# Altium integrated library Analog Devices Data Converters Analog-to-Digital Converters.IntLib: 2400 symbols (part 19 of 338)
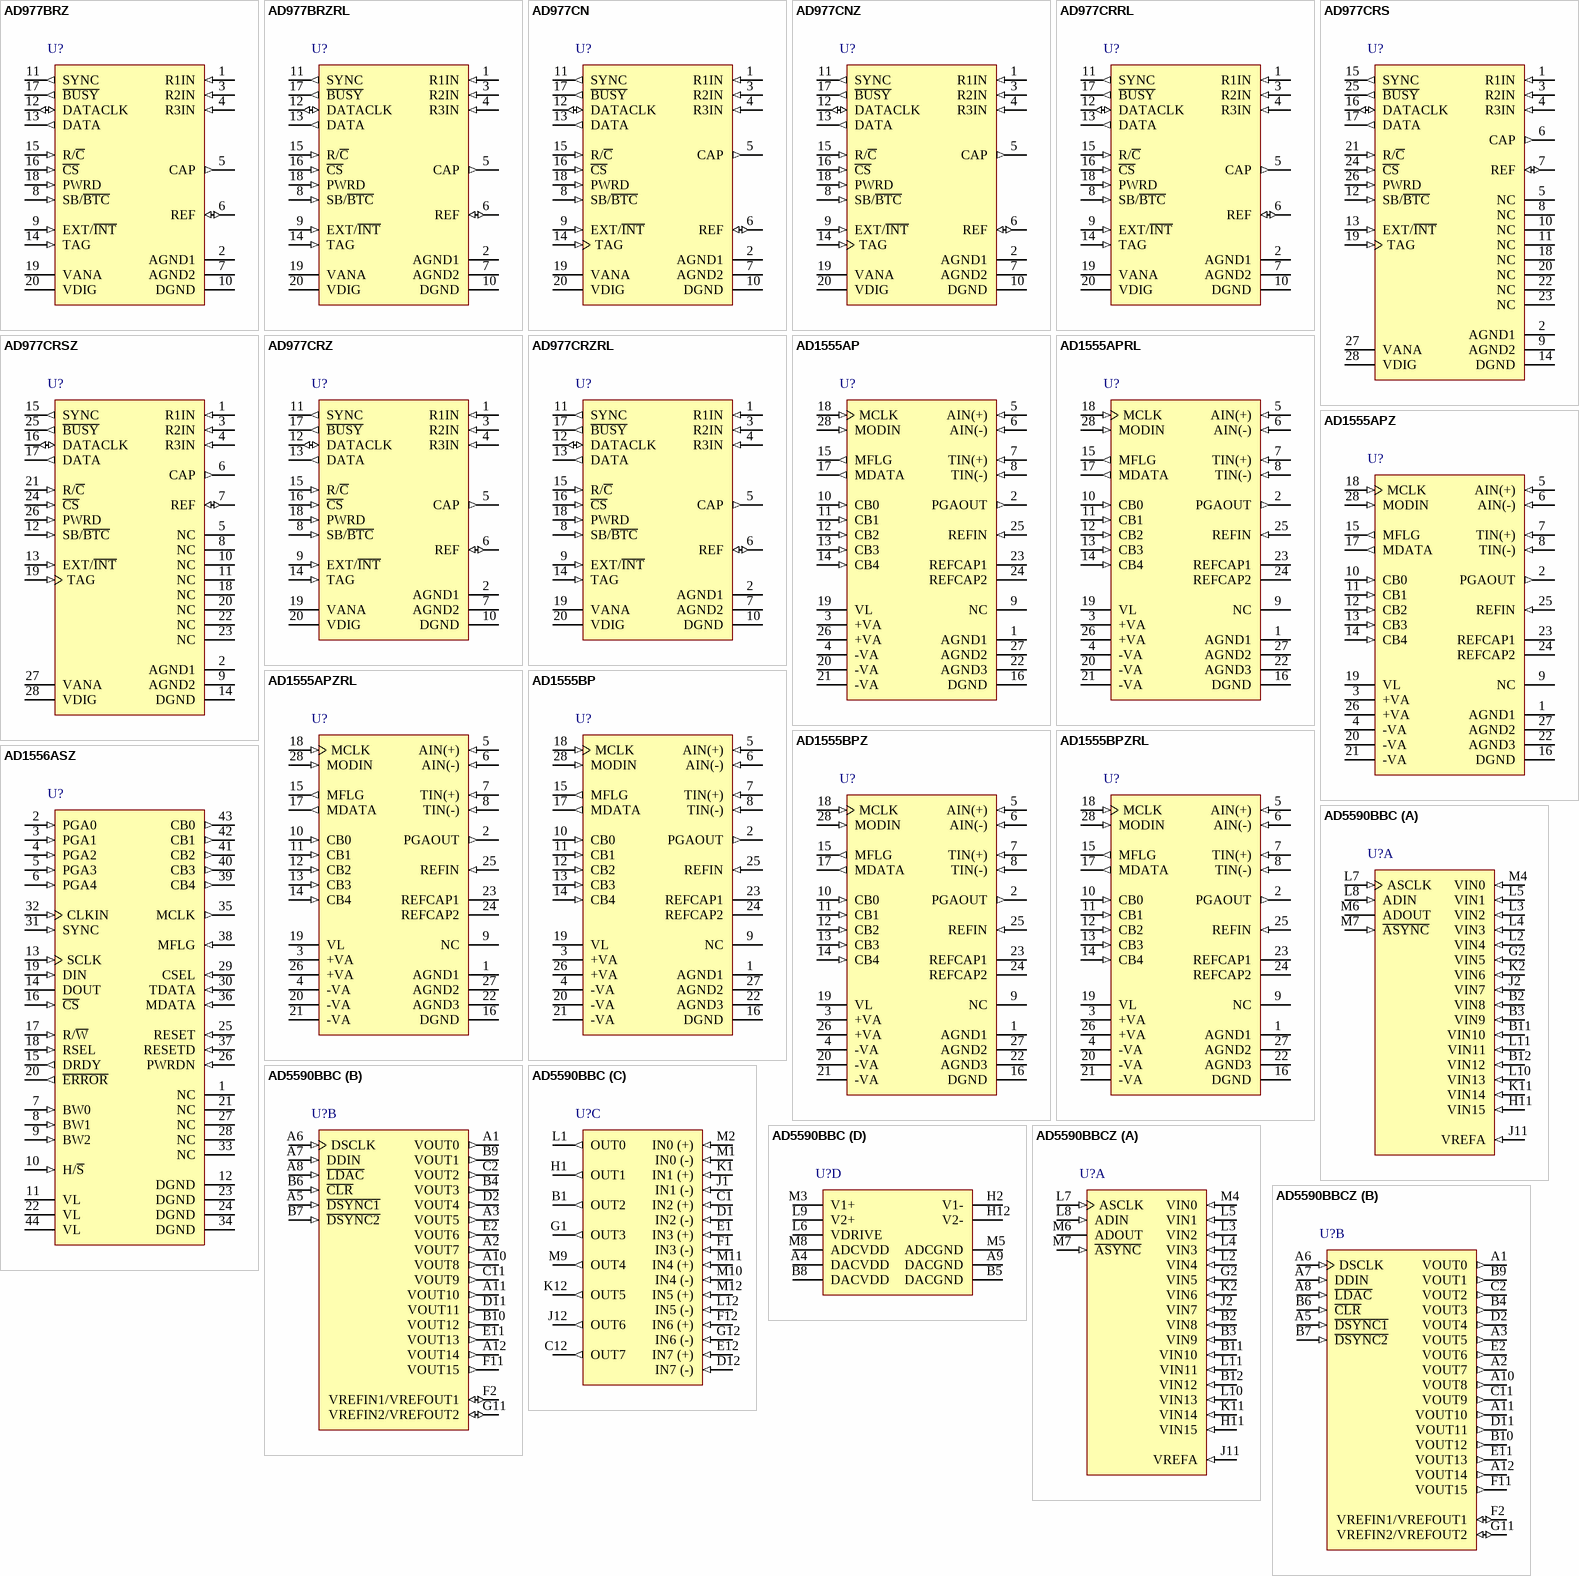
[diagram p165: symbols AD977BRZ to AD5590BBCZ]

## AD1555BPZ
designator U?
Dual 24-Bit Low Noise Sigma-Delta Analog-to-Digital Converter with Byte, Serial Interface and Low Noise PGA, 16KSPS, -55 to +85 degC, P-28, Pb-Free, Tube; Part Number: AD1555; Manufacturer: Analog Devices; Resolution (Bits): 24; Channels: 2; Throughput Rate (SPS): 16K; DatasheetVersion: Rev.B; PackageVersion: 042508-A; PackageReference: P-28; PackageDescription: 28-Lead Plastic Leaded Chip Carrier [PLCC]; Interface: Byte, Ser; RoHS: Y; Packing: Tube; Mounting Technology: Surface Mount; Code_JEDEC: MO-047-AB; ComponentLink1Description: Manufacturer URL; ComponentLink1URL: http://www.analog.com/en/index.html; ComponentLink2Description: Datasheet; ComponentLink2URL: http://www.analog.com/static/imported-files/data_sheets/AD1555_1556.pdf; ComponentLink3Description: Package Specification; ComponentLink3URL: http://www.analog.com/static/imported-files/packages/PKG_PDF/PLCC(P)/P_28.pdf; ComponentLink4Description: Product URL; ComponentLink4URL: http://www.analog.com/en/analog-to-digital-converters/ad-converters/ad1555/products/product.html
footprint P-28_N (Leaded Chip Carrier, 28-Leads, Body 11.5x11.5mm, Pitch 1.27mm, IPC Medium Density)
footprint P-28_L (Leaded Chip Carrier, 28-Leads, Body 11.5x11.5mm, Pitch 1.27mm, IPC High Density)
footprint P-28_M (Leaded Chip Carrier, 28-Leads, Body 11.5x11.5mm, Pitch 1.27mm, IPC Low Density)
pins: 1 AGND1 (power) "Analog Ground", 2 PGAOUT (out) "Programmable Gain Amplifier Output. The output of the on-chip programmable gain amplifier is available at this pin. Refer to Table III for PGA gain settings selection.", 3 +VA (power) "Positive Analog Supply Voltage. +5 V nominal.", 4 -VA (power) "Negative Analog Supply Voltage. -5 V nominal.", 5 AIN(+) (in) "Mux Input. Noninverting signal to the PGA mux input. Refer to Table III for input selection.", 6 AIN(-) (in) "Mux Input. Inverting signal to the PGA mux input. Refer to Table III for input selection.", 7 TIN(+) (in) "Mux Input. Noninverting test signal to the PGA mux input. Refer to Table III for input selection.", 8 TIN(-) (in) "Mux Input. Inverting test signal to the PGA mux input. Refer to Table III for input selection.", 9 NC "Pin for Factory Use Only. This pin must be kept not connected for normal operation.", 10 CB0 (in) "Modulator Control. These input pins control the mux selection, the PGA gain settings, and the standby modes of the AD1555. When used with the AD1556, these pins are generally directly tied to the CB0-CB4 output pins of the (See Datasheet)", 11 CB1 (in) "Modulator Control. These input pins control the mux selection, the PGA gain settings, and the standby modes of the AD1555. When used with the AD1556, these pins are generally directly tied to the CB0-CB4 output pins of the (See Datasheet)", 12 CB2 (in) "Modulator Control. These input pins control the mux selection, the PGA gain settings, and the standby modes of the AD1555. When used with the AD1556, these pins are generally directly tied to the CB0-CB4 output pins of the (See Datasheet)", 13 CB3 (in) "Modulator Control. These input pins control the mux selection, the PGA gain settings, and the standby modes of the AD1555. When used with the AD1556, these pins are generally directly tied to the CB0-CB4 output pins of the (See Datasheet)", 14 CB4 (in) "Modulator Control. These input pins control the mux selection, the PGA gain settings, and the standby modes of the AD1555. When used with the AD1556, these pins are generally directly tied to the CB0-CB4 output pins of the (See Datasheet)", 15 MFLG (out) "Modulator Error. Digital output that is pulsed high if an overrange condition occurs in the modulator.", 16 DGND (power) "Digital Ground", 17 MDATA (out) "Modulator Output. The bitstream generated by the modulator is output in a return-to-zero data format. The data is valid for approximately one-half a MCLK cycle. Refer to Figure 3.", 18 MCLK (in) "Clock Input. The clock input signal, nominally 256 kHz, provides the necessary clock for the sigma-? modulator. When this input is static, AD1555 is in the power-down mode.", 19 VL (power) "Positive Digital Supply Voltage. 5 V Nominal.", 20 -VA (power) "Negative Analog Supply Voltage. -5 V nominal.", 21 -VA (power) "Negative Analog Supply Voltage. -5 V nominal.", 22 AGND3 (power) "Analog Ground. Used as the ground reference for the REFIN pin.", 23 REFCAP1 "DAC Reference Filter. The reference input is internally divided and available at this pin to provide the reference for the sigma delta-delta modulator. Connect an external 22 µF (5 V min) tantalum capacitor from REFCAP1 to (See Datasheet)", 24 REFCAP2 "Reference Filter. The reference input is internally divided and available at this pin.", 25 REFIN (in) "Reference Input. This input accepts a 3 V level that is internally divided to provide the reference for the sigma-? modulator.", 26 +VA (power) "Positive Analog Supply Voltage. +5 V nominal.", 27 AGND2 (power) "Analog Ground.", 28 MODIN (in) "Modulator Input. Analog input to the modulator. Normally, this input is directly tied to PGAOUT output."

## AD1555BPZRL
designator U?
Dual 24-Bit Low Noise Sigma-Delta Analog-to-Digital Converter with Byte, Serial Interface and Low Noise PGA, 16KSPS, -55 to +85 degC, P-28, Pb-Free, Reel; Part Number: AD1555; Manufacturer: Analog Devices; Resolution (Bits): 24; Channels: 2; Throughput Rate (SPS): 16K; DatasheetVersion: Rev.B; PackageVersion: 042508-A; PackageReference: P-28; PackageDescription: 28-Lead Plastic Leaded Chip Carrier [PLCC]; Interface: Byte, Ser; RoHS: Y; Packing: Reel; Mounting Technology: Surface Mount; Code_JEDEC: MO-047-AB; ComponentLink1Description: Manufacturer URL; ComponentLink1URL: http://www.analog.com/en/index.html; ComponentLink2Description: Datasheet; ComponentLink2URL: http://www.analog.com/static/imported-files/data_sheets/AD1555_1556.pdf; ComponentLink3Description: Package Specification; ComponentLink3URL: http://www.analog.com/static/imported-files/packages/PKG_PDF/PLCC(P)/P_28.pdf; ComponentLink4Description: Product URL; ComponentLink4URL: http://www.analog.com/en/analog-to-digital-converters/ad-converters/ad1555/products/product.html
footprint P-28_N (Leaded Chip Carrier, 28-Leads, Body 11.5x11.5mm, Pitch 1.27mm, IPC Medium Density)
footprint P-28_L (Leaded Chip Carrier, 28-Leads, Body 11.5x11.5mm, Pitch 1.27mm, IPC High Density)
footprint P-28_M (Leaded Chip Carrier, 28-Leads, Body 11.5x11.5mm, Pitch 1.27mm, IPC Low Density)
pins: 1 AGND1 (power) "Analog Ground", 2 PGAOUT (out) "Programmable Gain Amplifier Output. The output of the on-chip programmable gain amplifier is available at this pin. Refer to Table III for PGA gain settings selection.", 3 +VA (power) "Positive Analog Supply Voltage. +5 V nominal.", 4 -VA (power) "Negative Analog Supply Voltage. -5 V nominal.", 5 AIN(+) (in) "Mux Input. Noninverting signal to the PGA mux input. Refer to Table III for input selection.", 6 AIN(-) (in) "Mux Input. Inverting signal to the PGA mux input. Refer to Table III for input selection.", 7 TIN(+) (in) "Mux Input. Noninverting test signal to the PGA mux input. Refer to Table III for input selection.", 8 TIN(-) (in) "Mux Input. Inverting test signal to the PGA mux input. Refer to Table III for input selection.", 9 NC "Pin for Factory Use Only. This pin must be kept not connected for normal operation.", 10 CB0 (in) "Modulator Control. These input pins control the mux selection, the PGA gain settings, and the standby modes of the AD1555. When used with the AD1556, these pins are generally directly tied to the CB0-CB4 output pins of the (See Datasheet)", 11 CB1 (in) "Modulator Control. These input pins control the mux selection, the PGA gain settings, and the standby modes of the AD1555. When used with the AD1556, these pins are generally directly tied to the CB0-CB4 output pins of the (See Datasheet)", 12 CB2 (in) "Modulator Control. These input pins control the mux selection, the PGA gain settings, and the standby modes of the AD1555. When used with the AD1556, these pins are generally directly tied to the CB0-CB4 output pins of the (See Datasheet)", 13 CB3 (in) "Modulator Control. These input pins control the mux selection, the PGA gain settings, and the standby modes of the AD1555. When used with the AD1556, these pins are generally directly tied to the CB0-CB4 output pins of the (See Datasheet)", 14 CB4 (in) "Modulator Control. These input pins control the mux selection, the PGA gain settings, and the standby modes of the AD1555. When used with the AD1556, these pins are generally directly tied to the CB0-CB4 output pins of the (See Datasheet)", 15 MFLG (out) "Modulator Error. Digital output that is pulsed high if an overrange condition occurs in the modulator.", 16 DGND (power) "Digital Ground", 17 MDATA (out) "Modulator Output. The bitstream generated by the modulator is output in a return-to-zero data format. The data is valid for approximately one-half a MCLK cycle. Refer to Figure 3.", 18 MCLK (in) "Clock Input. The clock input signal, nominally 256 kHz, provides the necessary clock for the sigma-? modulator. When this input is static, AD1555 is in the power-down mode.", 19 VL (power) "Positive Digital Supply Voltage. 5 V Nominal.", 20 -VA (power) "Negative Analog Supply Voltage. -5 V nominal.", 21 -VA (power) "Negative Analog Supply Voltage. -5 V nominal.", 22 AGND3 (power) "Analog Ground. Used as the ground reference for the REFIN pin.", 23 REFCAP1 "DAC Reference Filter. The reference input is internally divided and available at this pin to provide the reference for the sigma delta-delta modulator. Connect an external 22 µF (5 V min) tantalum capacitor from REFCAP1 to (See Datasheet)", 24 REFCAP2 "Reference Filter. The reference input is internally divided and available at this pin.", 25 REFIN (in) "Reference Input. This input accepts a 3 V level that is internally divided to provide the reference for the sigma-? modulator.", 26 +VA (power) "Positive Analog Supply Voltage. +5 V nominal.", 27 AGND2 (power) "Analog Ground.", 28 MODIN (in) "Modulator Input. Analog input to the modulator. Normally, this input is directly tied to PGAOUT output."

## AD1556ASZ
designator U?
Dual 24-Bit Sigma-Delta Analog-to-Digital Converter with Byte, Serial Interface and Low Noise PGA, 16KSPS, -55 to +85 degC, S-44A, Pb-Free, Tray; Part Number: AD1556; Manufacturer: Analog Devices; Resolution (Bits): 24; Channels: 2; Throughput Rate (SPS): 16K; DatasheetVersion: Rev.B; PackageVersion: 1999; PackageReference: S-44A; PackageDescription: 44-Lead Metric Quad Flat Package [MQFP]; Interface: Byte, Ser; RoHS: Y; Packing: Tray; Mounting Technology: Surface Mount; ComponentLink1Description: Manufacturer URL; ComponentLink1URL: http://www.analog.com/en/index.html; ComponentLink2Description: Datasheet; ComponentLink2URL: http://www.analog.com/static/imported-files/data_sheets/AD1555_1556.pdf; ComponentLink3Description: Package Specification; ComponentLink3URL: S-44A; ComponentLink4Description: Product URL; ComponentLink4URL: http://www.analog.com/en/analog-to-digital-converters/ad-converters/ad1556/products/product.html
footprint S-44A_N (QFP, 44-Leads, Body 10x10mm, Pitch 0.8mm, IPC Medium Density)
footprint S-44A_L (QFP, 44-Leads, Body 10x10mm, Pitch 0.8mm, IPC High Density)
footprint S-44A_M (QFP, 44-Leads, Body 10x10mm, Pitch 0.8mm, IPC Low Density)
pins: 1 NC "No Connect", 2 PGA0 (in) "PGA and MUX Control Inputs. Sets the logic level of CB0-CB4 output pins respectively and thestate of the corresponding bit in the configuration register upon RESET or when in hardware mode.Refer to Table III.", 3 PGA1 (in) "PGA and MUX Control Inputs. Sets the logic level of CB0-CB4 output pins respectively and thestate of the corresponding bit in the configuration register upon RESET or when in hardware mode.Refer to Table III.", 4 PGA2 (in) "PGA and MUX Control Inputs. Sets the logic level of CB0-CB4 output pins respectively and thestate of the corresponding bit in the configuration register upon RESET or when in hardware mode.Refer to Table III.", 5 PGA3 (in) "PGA and MUX Control Inputs. Sets the logic level of CB0-CB4 output pins respectively and thestate of the corresponding bit in the configuration register upon RESET or when in hardware mode.Refer to Table III.", 6 PGA4 (in) "PGA and MUX Control Inputs. Sets the logic level of CB0-CB4 output pins respectively and thestate of the corresponding bit in the configuration register upon RESET or when in hardware mode.Refer to Table III.", 7 BW0 (in) "Output Rate Control Inputs. Sets the digital filter decimation rate and the state of the corresponding bit in the configuration register upon RESET or when in hardware mode. Refer to the FilterSpecifications and Table VI.", 8 BW1 (in) "Output Rate Control Inputs. Sets the digital filter decimation rate and the state of the corresponding bit in the configuration register upon RESET or when in hardware mode. Refer to the FilterSpecifications and Table VI.", 9 BW2 (in) "Output Rate Control Inputs. Sets the digital filter decimation rate and the state of the corresponding bit in the configuration register upon RESET or when in hardware mode. Refer to the FilterSpecifications and Table VI.", 10 H/~{S} (in) "Hardware/Software Mode Select. Determines how the device operation is controlled. In hardwaremode, H/S\ is high, the state of hardware pins set the mode of operation. When H/S\ is low, a writesequence to the Configuration (See Datasheet)", 11 VL (power) "Positive Digital Supply Voltage. 3.3 V or 5 V nominal.", 12 DGND (power) "Digital Ground", 13 SCLK (in) "Serial Data Clock. Synchronizes data transfer to either write data on the DIN input pin or readdata on the DOUT output pin.", 14 DOUT (hiz) "Serial Data Output. DOUT is used to access the conversion results or the contents of the StatusRegister, depending on the logic state of the RSEL pin. At the beginning of a read operation, thefirst data bit is output (MSB (See Datasheet)", 15 DRDY (out) "Data Ready. A logic high output indicates that data is ready to be accessed from the Output DataRegister. DRDY goes low once a read operation is complete. When selected, the DRDY output pinhas a type buffer that allows (See Datasheet)", 16 ~{CS} (in) "Chip Select. When set low the serial data interface pins DIN, DOUT, R/W\, and SCLK are active; alogic high disables these pins and sets the DOUT pin to Hi-Z.", 17 R/~{W} (in) "Read/Write. A read operation is initiated if R/W\ is high and C\S\ is low. A low sets the DOUT pin to Hi-Z and allows a write operation to the device via the DIN pin.", 18 RSEL (in) "Register Select. When set high, the Conversion Data Register contents are output on a read operation. A low selects the Status Register.", 19 DIN (in) "Serial Data Input. Used during a write operation. Loads the Configuration Register via the InputShift Register. Data is loaded MSB first and must be valid on the falling edge of SCLK.", 20 ~{ERROR} (out) "Error Flag. A logic low output indicates an error condition occurred in the modulator or digitalfilter. When ERROR goes low the E\R\R\O\R\ bit in the status register is set high. The E\R\R\O\R\ outputpin has an open drain (See Datasheet)", 21 NC "No Connect", 22 VL (power) "Positive Digital Supply Voltage. 3.3 V or 5 V nominal.", 23 DGND (power) "Digital Ground", 24 DGND (power) "Digital Ground", 25 RESET (in) "Chip Reset. A logic high input clears any error condition in the status register and sets the configurationregister to the state of the corresponding hardware pins. On power-up, this reset state is entered.", 26 PWRDN (in) "Power-Down Hardware Control. A logic high input powers down the filter. The convolution cyclesin the digital filter and the MCLK signal are stopped. All registers retain their data and the serialdata interface remains active.(See Datasheet)", 27 NC "No Connect", 28 NC "No Connect", 29 CSEL (in) "Filter Input Select. Selects the source for input to the digital filter. A logic high selects the TDATAinput, a low selects MDATA as the filter input.", 30 TDATA (in) "Test Data. Input to digital filter for user test data.", 31 SYNC (in) "Synchronization Input. The SYNC input clears the AD1556 filter in order to synchronize the startof the filter convolutions. The SYNC event is initiated on the first CLKIN rising edge after theSYNC pin goes high. The SYNC (See Datasheet)", 32 CLKIN (in) "Clock Input. The clock input signal, nominally 1.024 MHz, provides the necessary clock for theAD1556. This clock frequency is divided by four to generate the MCLK signal for the AD1555.", 33 NC "No Connect", 34 DGND (power) "Digital Ground", 35 MCLK (out) "Modulator Clock. Provides the modulator sampling clock frequency. The modulator always samplesat one-fourth the CLKIN frequency.", 36 MDATA (in) "Modulator Data. This input receives the ones-density bit stream from the AD1555 for input to thedigital filter.", 37 RESETD (in) "Decimator Reset. A logic high resets the decimator of the digital filter.", 38 MFLG (in) "Modulator Error. The MFLG input is used to detect if an overrange condition occurred in themodulator. Its logic level is sensed on the rising edge of CLKIN. When overrange conditiondetected, ERROR goes low and updates the (See Datasheet)", 39 CB4 (out) "Modulator Control. These output control pins represent a portion of the data loaded into the AD1556Configuration Register. CB0-CB2 are generally used to set the PGA gain or cause it to enter in thePGA standby mode (Refer to (See Datasheet)", 40 CB3 (out) "Modulator Control. These output control pins represent a portion of the data loaded into the AD1556Configuration Register. CB0-CB2 are generally used to set the PGA gain or cause it to enter in thePGA standby mode (Refer to (See Datasheet)", 41 CB2 (out) "Modulator Control. These output control pins represent a portion of the data loaded into the AD1556Configuration Register. CB0-CB2 are generally used to set the PGA gain or cause it to enter in thePGA standby mode (Refer to (See Datasheet)", 42 CB1 (out) "Modulator Control. These output control pins represent a portion of the data loaded into the AD1556Configuration Register. CB0-CB2 are generally used to set the PGA gain or cause it to enter in thePGA standby mode (Refer to (See Datasheet)", 43 CB0 (out) "Modulator Control. These output control pins represent a portion of the data loaded into the AD1556Configuration Register. CB0-CB2 are generally used to set the PGA gain or cause it to enter in thePGA standby mode (Refer to (See Datasheet)", 44 VL (power) "Positive Digital Supply Voltage. 3.3 V or 5 V nominal."

## AD5590BBC
designator U?
16 Channel 12-Bit Analog-to-Digital Converter with Serial, SPI Interface, 1MSPS, -40 to +85 degC, BC-80-2, Tray; Part Number: AD5590; Manufacturer: Analog Devices; Resolution (Bits): 12; Channels: 16; Throughput Rate (SPS): 1M; Interface: Ser, SPI; DatasheetVersion: Rev.A; PackageVersion: 011007-A; PackageReference: BC-80-2; PackageDescription: 80-Ball Chip Scale Package Ball Grid Array [CSP_BGA]; RoHS: N; Packing: Tray; Mounting Technology: Surface Mount; Code_JEDEC: MO-205-AC*; ComponentLink1Description: Manufacturer URL; ComponentLink1URL: http://www.analog.com/en/index.html; ComponentLink2Description: Datasheet; ComponentLink2URL: http://www.analog.com/static/imported-files/data_sheets/AD5590.pdf; ComponentLink3Description: Package Specification; ComponentLink3URL: http://www.analog.com/static/imported-files/packages/PKG_PDF/CSPBGA%20(BC)/BC_80_2.pdf; ComponentLink4Description: Product URL; ComponentLink4URL: http://www.analog.com/en/analog-to-digital-converters/ad-converters/ad5590/products/product.html
footprint BC-80-2 (BGA, 80-Leads, Body 10x10mm, Pitch 0.8mm)
part A pins: B2 VIN8 (in) "Analog Input 0 through Analog Input 15. Sixteen single-ended analog input channels that are multiplexed into the on-chip track and hold. The analog input channel to be converted is selected by using the ADD3 through ADD0 (See Datasheet)", B3 VIN9 (in) "Analog Input 0 through Analog Input 15. Sixteen single-ended analog input channels that are multiplexed into the on-chip track and hold. The analog input channel to be converted is selected by using the ADD3 through ADD0 (See Datasheet)", B11 VIN10 (in) "Analog Input 0 through Analog Input 15. Sixteen single-ended analog input channels that are multiplexed into the on-chip track and hold. The analog input channel to be converted is selected by using the ADD3 through ADD0 (See Datasheet)", B12 VIN12 (in) "Analog Input 0 through Analog Input 15. Sixteen single-ended analog input channels that are multiplexed into the on-chip track and hold. The analog input channel to be converted is selected by using the ADD3 through ADD0 (See Datasheet)", G2 VIN5 (in) "Analog Input 0 through Analog Input 15. Sixteen single-ended analog input channels that are multiplexed into the on-chip track and hold. The analog input channel to be converted is selected by using the ADD3 through ADD0 (See Datasheet)", H11 VIN15 (in) "Analog Input 0 through Analog Input 15. Sixteen single-ended analog input channels that are multiplexed into the on-chip track and hold. The analog input channel to be converted is selected by using the ADD3 through ADD0 (See Datasheet)", J2 VIN7 (in) "Analog Input 0 through Analog Input 15. Sixteen single-ended analog input channels that are multiplexed into the on-chip track and hold. The analog input channel to be converted is selected by using the ADD3 through ADD0 (See Datasheet)", J11 VREFA (in) "Reference Input for the ADC Block. An external reference must be applied to this input. The voltage range for the external reference is 2.5 V +/- 1% for specified performance.", K2 VIN6 (in) "Analog Input 0 through Analog Input 15. Sixteen single-ended analog input channels that are multiplexed into the on-chip track and hold. The analog input channel to be converted is selected by using the ADD3 through ADD0 (See Datasheet)", K11 VIN14 (in) "Analog Input 0 through Analog Input 15. Sixteen single-ended analog input channels that are multiplexed into the on-chip track and hold. The analog input channel to be converted is selected by using the ADD3 through ADD0 (See Datasheet)", L2 VIN4 (in) "Analog Input 0 through Analog Input 15. Sixteen single-ended analog input channels that are multiplexed into the on-chip track and hold. The analog input channel to be converted is selected by using the ADD3 through ADD0 (See Datasheet)", L3 VIN2 (in) "Analog Input 0 through Analog Input 15. Sixteen single-ended analog input channels that are multiplexed into the on-chip track and hold. The analog input channel to be converted is selected by using the ADD3 through ADD0 (See Datasheet)", L4 VIN3 (in) "Analog Input 0 through Analog Input 15. Sixteen single-ended analog input channels that are multiplexed into the on-chip track and hold. The analog input channel to be converted is selected by using the ADD3 through ADD0 (See Datasheet)", L5 VIN1 (in) "Analog Input 0 through Analog Input 15. Sixteen single-ended analog input channels that are multiplexed into the on-chip track and hold. The analog input channel to be converted is selected by using the ADD3 through ADD0 (See Datasheet)", L7 ASCLK (in) "Serial Clock. Logic input. ASCLK provides the serial clock for accessing data from the ADC block. This clock input is also used as the clock source for the conversion process of the ADC.", L8 ADIN (in) "ADC Data In. Logic input. Data to be written to the control register of the ADC is provided on this input and is clocked into the register on the falling edge of ASCLK (see the Accessing the ADC Block section).", L10 VIN13 (in) "Analog Input 0 through Analog Input 15. Sixteen single-ended analog input channels that are multiplexed into the on-chip track and hold. The analog input channel to be converted is selected by using the ADD3 through ADD0 (See Datasheet)", L11 VIN11 (in) "Analog Input 0 through Analog Input 15. Sixteen single-ended analog input channels that are multiplexed into the on-chip track and hold. The analog input channel to be converted is selected by using the ADD3 through ADD0 (See Datasheet)", M4 VIN0 (in) "Analog Input 0 through Analog Input 15. Sixteen single-ended analog input channels that are multiplexed into the on-chip track and hold. The analog input channel to be converted is selected by using the ADD3 through ADD0 (See Datasheet)", M6 ADOUT (hiz) "Data Out. Logic output. The conversion result from the ADC block is provided on this output as a serial data stream. The bits are clocked out on the falling edge of the ASCLK input. The data stream consists of four address (See Datasheet)", M7 ~{ASYNC} (in) "Frame Synchronization Signal. Active low logic input. This input provides the dual function of  initiating ADC conversions and also frames the serial data transfer."
part B pins: A1 VOUT0 (out) "Analog Output Voltage from DAC0 to DAC7. D\S\Y\N\C\1\ is the frame synchronization signal for writing data to these DACs. The DAC is updated automatically if L\D\A\C\ is low, or on the falling edge of L\D\A\C\ if it is high. (See Datasheet)", A2 VOUT7 (out) "Analog Output Voltage from DAC0 to DAC7. D\S\Y\N\C\1\ is the frame synchronization signal for writing data to these DACs. The DAC is updated automatically if L\D\A\C\ is low, or on the falling edge of L\D\A\C\ if it is high. (See Datasheet)", A3 VOUT5 (out) "Analog Output Voltage from DAC0 to DAC7. D\S\Y\N\C\1\ is the frame synchronization signal for writing data to these DACs. The DAC is updated automatically if L\D\A\C\ is low, or on the falling edge of L\D\A\C\ if it is high. (See Datasheet)", A5 ~{DSYNC1} (in) "Active Low Control Input. This is the frame synchronization signal for the input data of DAC channels VOUT0 to VOUT7. When D\S\Y\N\C\1\ goes low, it powers on the DSCLK and DDIN buffers and enables the input shift register. (See Datasheet)", A6 DSCLK (in) "DAC Clock Input. Data is clocked into the input shift register on the falling edge of the serial clock input. Data can be transferred at rates of up to 50 MHz.", A7 DDIN (in) "DAC Data Input. This DAC has a 32-bit shift register. Data is clocked into the register on the falling edge of the serial clock input.", A8 ~{LDAC} (in) "Pulsing this pin low allows any or all DAC registers to be updated if the input registers have new data. This allows all DAC outputs to simultaneously update. Alternatively, this pin can be tied permanently low.", A10 VOUT8 (out) "Analog Output Voltage from DAC8 to DAC15. D\S\Y\N\C\2\ is the frame synchronization signal for writing data to these DACs. The DAC is updated automatically if L\D\A\C\ is low, or on the falling edge of L\D\A\C\ if it is high.(See Datasheet)", A11 VOUT10 (out) "Analog Output Voltage from DAC8 to DAC15. D\S\Y\N\C\2\ is the frame synchronization signal for writing data to these DACs. The DAC is updated automatically if L\D\A\C\ is low, or on the falling edge of L\D\A\C\ if it is high.(See Datasheet)", A12 VOUT14 (out) "Analog Output Voltage from DAC8 to DAC15. D\S\Y\N\C\2\ is the frame synchronization signal for writing data to these DACs. The DAC is updated automatically if L\D\A\C\ is low, or on the falling edge of L\D\A\C\ if it is high.(See Datasheet)", B4 VOUT3 (out) "Analog Output Voltage from DAC0 to DAC7. D\S\Y\N\C\1\ is the frame synchronization signal for writing data to these DACs. The DAC is updated automatically if L\D\A\C\ is low, or on the falling edge of L\D\A\C\ if it is high. (See Datasheet)", B6 ~{CLR} (in) "Asynchronous Clear Input. The C\L\R\ input is falling edge sensitive. When C\L\R\ is low, all L\D\A\C\ pulses are ignored. When C\L\R\ is activated, the input register and the DAC register are updated with the data contained (See Datasheet)", B7 ~{DSYNC2} (in) "Active Low Control Input. This is the frame synchronization signal for the input data of DAC channels VOUT8 to VOUT15. When D\S\Y\N\C\2\ goes low, it powers on the DSCLK and DDIN buffers and enables the input shift register. (See Datasheet)", B9 VOUT1 (out) "Analog Output Voltage from DAC0 to DAC7. D\S\Y\N\C\1\ is the frame synchronization signal for writing data to these DACs. The DAC is updated automatically if L\D\A\C\ is low, or on the falling edge of L\D\A\C\ if it is high. (See Datasheet)", B10 VOUT12 (out) "Analog Output Voltage from DAC8 to DAC15. D\S\Y\N\C\2\ is the frame synchronization signal for writing data to these DACs. The DAC is updated automatically if L\D\A\C\ is low, or on the falling edge of L\D\A\C\ if it is high.(See Datasheet)", C2 VOUT2 (out) "Analog Output Voltage from DAC0 to DAC7. D\S\Y\N\C\1\ is the frame synchronization signal for writing data to these DACs. The DAC is updated automatically if L\D\A\C\ is low, or on the falling edge of L\D\A\C\ if it is high. (See Datasheet)", C11 VOUT9 (out) "Analog Output Voltage from DAC8 to DAC15. D\S\Y\N\C\2\ is the frame synchronization signal for writing data to these DACs. The DAC is updated automatically if L\D\A\C\ is low, or on the falling edge of L\D\A\C\ if it is high.(See Datasheet)", D2 VOUT4 (out) "Analog Output Voltage from DAC0 to DAC7. D\S\Y\N\C\1\ is the frame synchronization signal for writing data to these DACs. The DAC is updated automatically if L\D\A\C\ is low, or on the falling edge of L\D\A\C\ if it is high. (See Datasheet)", D11 VOUT11 (out) "Analog Output Voltage from DAC8 to DAC15. D\S\Y\N\C\2\ is the frame synchronization signal for writing data to these DACs. The DAC is updated automatically if L\D\A\C\ is low, or on the falling edge of L\D\A\C\ if it is high.(See Datasheet)", E2 VOUT6 (out) "Analog Output Voltage from DAC0 to DAC7. D\S\Y\N\C\1\ is the frame synchronization signal for writing data to these DACs. The DAC is updated automatically if L\D\A\C\ is low, or on the falling edge of L\D\A\C\ if it is high. (See Datasheet)", E11 VOUT13 (out) "Analog Output Voltage from DAC8 to DAC15. D\S\Y\N\C\2\ is the frame synchronization signal for writing data to these DACs. The DAC is updated automatically if L\D\A\C\ is low, or on the falling edge of L\D\A\C\ if it is high.(See Datasheet)", F2 VREFIN1/VREFOUT1 (io) "Reference Input/Output Pin for DAC0 to DAC7. The DACs have a common pin for reference input and reference output. When using the internal reference, this is the reference output pin. When using an external reference, this is (See Datasheet)", F11 VOUT15 (out) "Analog Output Voltage from DAC8 to DAC15. D\S\Y\N\C\2\ is the frame synchronization signal for writing data to these DACs. The DAC is updated automatically if L\D\A\C\ is low, or on the falling edge of L\D\A\C\ if it is high.(See Datasheet)", G11 VREFIN2/VREFOUT2 (io) "Reference Input/Output Pin for DAC8 to DAC15. The DACs have a common pin for reference input and reference output. When using the internal reference, this is the reference output pin. When using an external reference, this (See Datasheet)"
part C pins: B1 OUT2 (out) "Output Terminals for Operational Amplifier 0 to Amplifier 7.", C1 IN2 (+) (in) "Noninverting Input Terminals for Operational Amplifier 0 to Amplifier 7.", C12 OUT7 (out) "Output Terminals for Operational Amplifier 0 to Amplifier 7.", D1 IN2 (-) (in) "Inverting Input Terminals for Operational Amplifier 0 to Amplifier 7.", D12 IN7 (-) (in) "Inverting Input Terminals for Operational Amplifier 0 to Amplifier 7.", E1 IN3 (+) (in) "Noninverting Input Terminals for Operational Amplifier 0 to Amplifier 7.", E12 IN7 (+) (in) "Noninverting Input Terminals for Operational Amplifier 0 to Amplifier 7.", F1 IN3 (-) (in) "Inverting Input Terminals for Operational Amplifier 0 to Amplifier 7.", F12 IN6 (+) (in) "Noninverting Input Terminals for Operational Amplifier 0 to Amplifier 7.", G1 OUT3 (out) "Output Terminals for Operational Amplifier 0 to Amplifier 7.", G12 IN6 (-) (in) "Inverting Input Terminals for Operational Amplifier 0 to Amplifier 7.", H1 OUT1 (out) "Output Terminals for Operational Amplifier 0 to Amplifier 7.", J1 IN1 (-) (in) "Inverting Input Terminals for Operational Amplifier 0 to Amplifier 7.", J12 OUT6 (out) "Output Terminals for Operational Amplifier 0 to Amplifier 7.", K1 IN1 (+) (in) "Noninverting Input Terminals for Operational Amplifier 0 to Amplifier 7.", K12 OUT5 (out) "Output Terminals for Operational Amplifier 0 to Amplifier 7.", L1 OUT0 (out) "Output Terminals for Operational Amplifier 0 to Amplifier 7.", L12 IN5 (-) (in) "Inverting Input Terminals for Operational Amplifier 0 to Amplifier 7.", M1 IN0 (-) (in) "Inverting Input Terminals for Operational Amplifier 0 to Amplifier 7.", M2 IN0 (+) (in) "Noninverting Input Terminals for Operational Amplifier 0 to Amplifier 7.", M9 OUT4 (out) "Output Terminals for Operational Amplifier 0 to Amplifier 7.", M10 IN4 (-) (in) "Inverting Input Terminals for Operational Amplifier 0 to Amplifier 7.", M11 IN4 (+) (in) "Noninverting Input Terminals for Operational Amplifier 0 to Amplifier 7.", M12 IN5 (+) (in) "Noninverting Input Terminals for Operational Amplifier 0 to Amplifier 7."
part D pins: A4 DACVDD (power) "Power Supply Input for the DAC Block. The DAC can operate from 4.5 V to 5.25 V, and the supply should be decoupled with a 10 uF in parallel with a 0.1 uF capacitor to DACGND. The two DACVDD pins must be connected together.", A9 DACGND (power) "Ground Reference Point for the DAC Block. All DAC analog/digital input/output signals and any external reference signal should be referred to this DACGND voltage. The two DACGND pins should be connected together.", B5 DACGND (power) "Ground Reference Point for the DAC Block. All DAC analog/digital input/output signals and any external reference signal should be referred to this DACGND voltage. The two DACGND pins should be connected together.", B8 DACVDD (power) "Power Supply Input for the DAC Block. The DAC can operate from 4.5 V to 5.25 V, and the supply should be decoupled with a 10 uF in parallel with a 0.1 uF capacitor to DACGND. The two DACVDD pins must be connected together.", H2 V1- (power) "Negative Supply Input for Amplifier 0 to Amplifier 3.", H12 V2- (power) "Negative Supply Input for Amplifier 4 to Amplifier 7.", L6 VDRIVE (power) "Logic Power Supply Input. The voltage supplied at this pin determines at what voltage the serial interface of the ADC block operates.", L9 V2+ (power) "Positive Supply Input for Amplifier 4 to Amplifier 7. The supply for these amplifiers is independent of other supplies and can be operated with a different supply if required. The pin should be decoupled to V2- with a 10 uF (See Datasheet)", M3 V1+ (power) "Positive Supply Input for the amplifier 0 to amplifier 3. The supply for these amplifiers is independent of other supplies and can be operated with a different supply if required. The pin should be decoupled to V1- with a 10 (See Datasheet)", M5 ADCGND (power) "Ground Reference Point for the ADC Block. All ADC analog/digital input/output signals and any external reference signal should be referred to this ADCGND voltage.", M8 ADCVDD (power) "Power Supply Input for the ADC Block. The ADC can operate from 4.5 V to 5.25 V, and the supply should be decoupled with a 10 uF in parallel with a 0.1 uF capacitor to ADCGND."

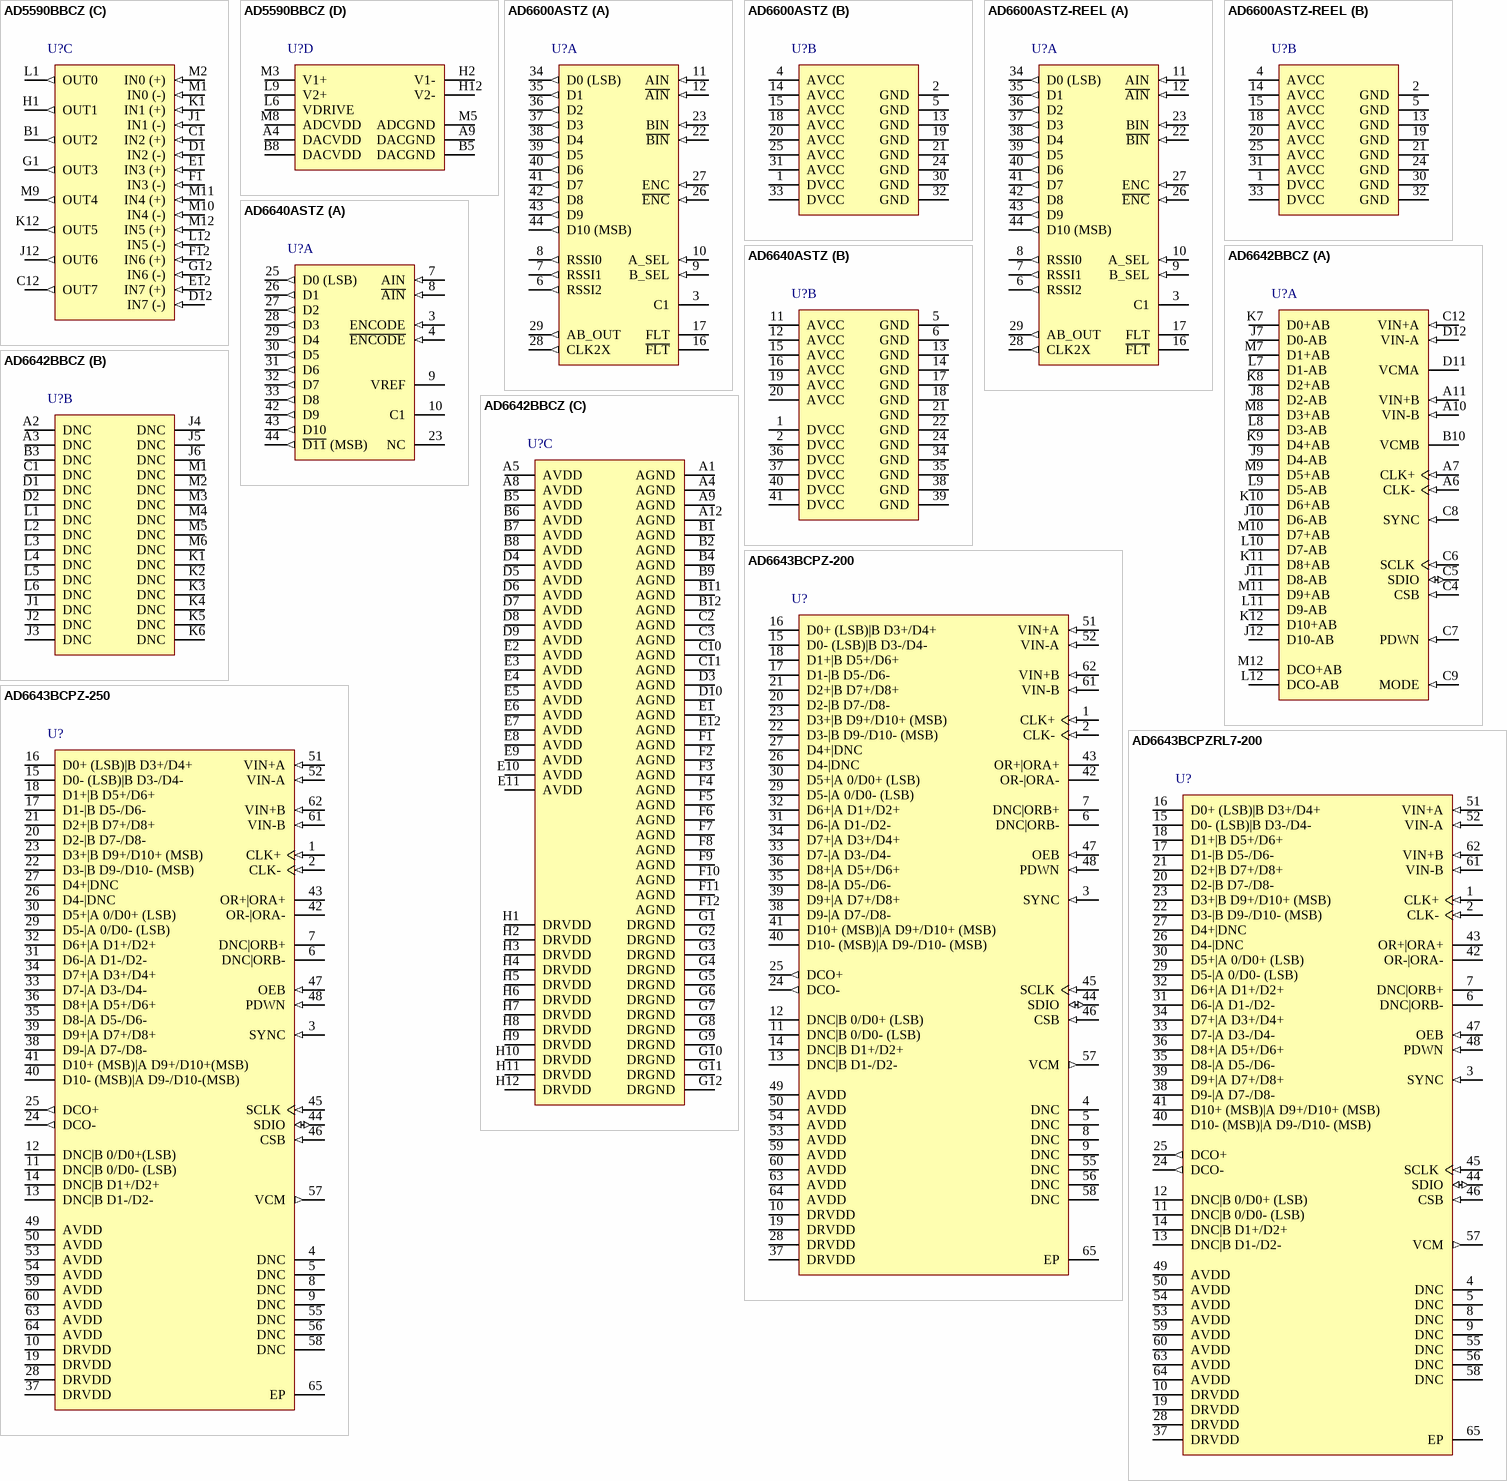
[diagram p7: symbols AD5590BBCZ to AD6643BCPZRL7-200]